# EAGLE library part _SW_SPDT_H_30V_0.3A_TH_(SK12F17G7) (library SamacSys_Parts)
Slide Switches SPDT 0.3 Amp at 30 V Source: Datasheet
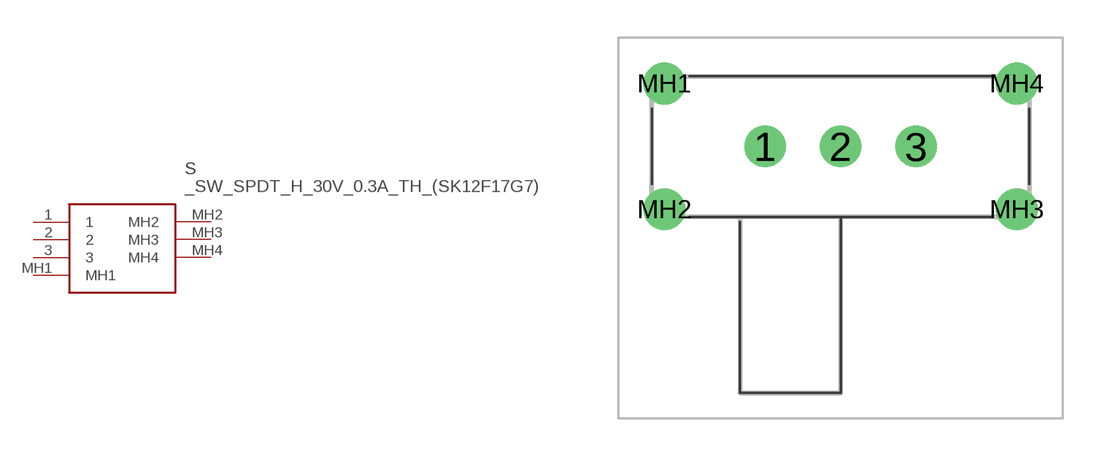
[diagram p42: symbol with the pads of SK12F17G7; footprint SK12F17G7]

Designator prefix S

## _SW_SPDT_H_30V_0.3A_TH_(SK12F17G7) (DESCRIPTION: Slide Switches SPDT 0.3 Amp at 30 V; HEIGHT: 8mm; MANUFACTURER_NAME: C & K COMPONENTS; MANUFACTURER_PART_NUMBER: SK12F17G7; MOUSER_PART_NUMBER: 611-SK-12F17-G7; MOUSER_PRICE-STOCK: https://www.mouser.co.uk/ProductDetail/CK/SK12F17G7?qs=Gufeu08L%2Fl0qPU5f1X4WXw%3D%3D)  [SK12F17G7]
1  1
2  2
3  3
MH1  MH1
MH2  MH2
MH3  MH3
MH4  MH4

## Footprint SK12F17G7 (pad centres in mm)
SK12F17G7-2
drill 1.1 pad 1.65: 1 0,0; 2 3,0; 3 6,0; MH1 -4,2.5; MH2 -4,-2.5; MH3 10,-2.5; MH4 10,2.5